# Altium schematic symbol library Resistor_Pot.Schlib: 1 symbol
Pins are listed as number, name and electrical type; pins without a type are passive.

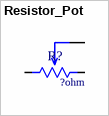
[diagram p0: symbol Resistor_Pot]

## Resistor_Pot
designator R?  Resistance: ?ohm  (hidden comment: *)
footprint Potentiometer_20T
pins: 0, 1, 2